# EAGLE library part DM3BT (library NMR-relaxometry)
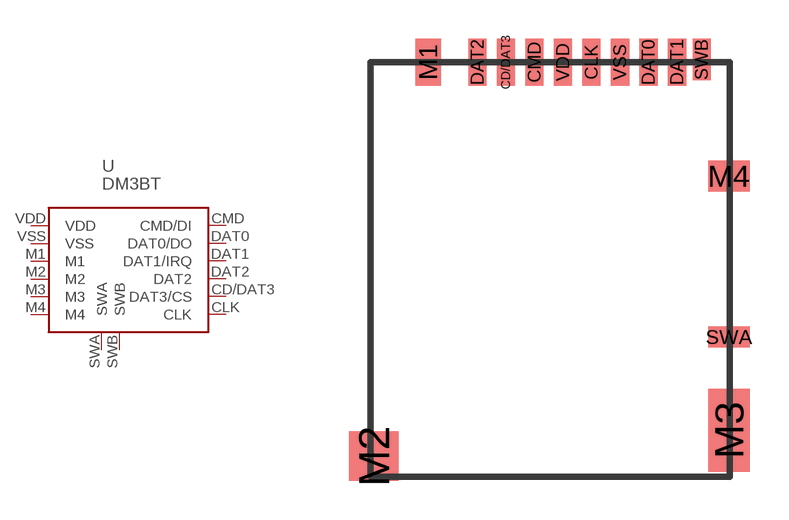
[diagram p3: symbol with the pads of DM3BT; footprint DM3BT]

Designator prefix -

## DM3BT  [DM3BT]
CD/DAT3  DAT3/CS
CLK  CLK  in
CMD  CMD/DI  in
DAT0  DAT0/DO
DAT1  DAT1/IRQ
DAT2  DAT2
M1  M1  pas
M2  M2  pas
M3  M3  pas
M4  M4  pas
SWA  SWA  pas
SWB  SWB  pas
VDD  VDD  pwr
VSS  VSS  pwr

## Footprint DM3BT (pad centres in mm)
smd 0.7 x 1.8: CD/DAT3 1.1,0.9; CLK 4.4,0.9; CMD 2.2,0.9; DAT0 6.6,0.9; DAT1 7.7,0.9; DAT2 0,0.9; VDD 3.3,0.9; VSS 5.5,0.9
smd 1 x 1.8: M1 -1.9,0.9
smd 1.9 x 1.9: M2 -4,-14.3
smd 1.6 x 3.2: M3 9.7,-13.3
smd 1.6 x 1.2: M4 9.7,-3.5
smd 1.6 x 0.8: SWA 9.7,-9.7
smd 0.7 x 1.6: SWB 8.65,1